# Altium footprint library ADuC.PcbLib: 1 footprints
Each footprint in its own frame and in the unit in brackets; x right, y up, seen from the top. Pads: shape width x height; smd on the part's side, far side on the other; paste and mask are expansions set on the pad; w line width, h text height; cw(c..) or ccw(c..) is an arc to the next point about the centre after c.
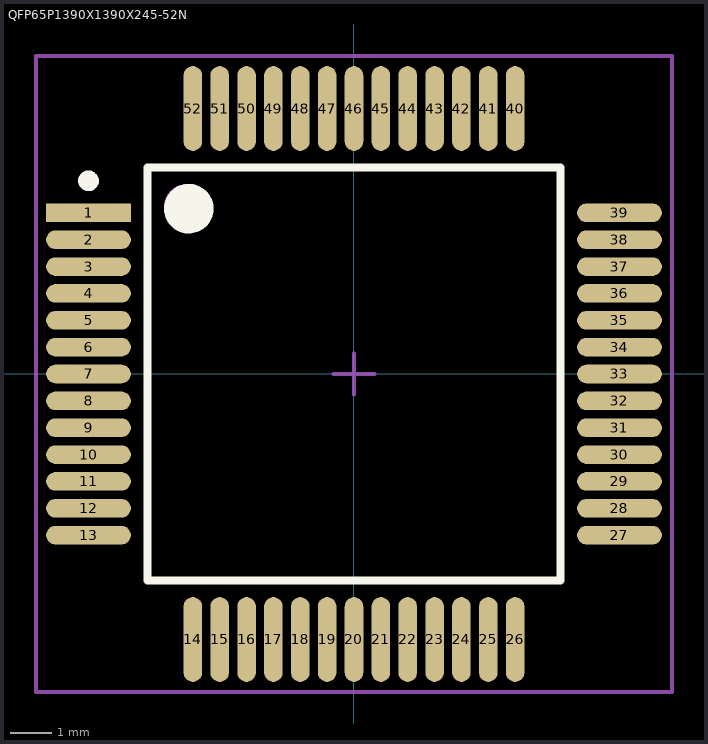
[diagram p0: the footprint, top view; thin cyan lines are the x and y axes]

## QFP65P1390X1390X245-52N [mm] "QFP, 52-Leads, Body 14.1x14.1mm (max), Pitch 0.65mm, IPC Medium Density"
height 2.45
pads (52):
  rect 2.05x0.45 smd: 1(-6.425,3.9)
  oval 2.05x0.45 smd: 2(-6.425,3.25) 3(-6.425,2.6) 4(-6.425,1.95) 5(-6.425,1.3) 6(-6.425,0.65) 7(-6.425,0) 8(-6.425,-0.65) 9(-6.425,-1.3) 10(-6.425,-1.95) 11(-6.425,-2.6) 12(-6.425,-3.25) 13(-6.425,-3.9) 27(6.425,-3.9) 28(6.425,-3.25) 29(6.425,-2.6) 30(6.425,-1.95) 31(6.425,-1.3) 32(6.425,-0.65) 33(6.425,0) 34(6.425,0.65) 35(6.425,1.3) 36(6.425,1.95) 37(6.425,2.6) 38(6.425,3.25) 39(6.425,3.9)
  oval 0.45x2.05 smd: 14(-3.9,-6.425) 15(-3.25,-6.425) 16(-2.6,-6.425) 17(-1.95,-6.425) 18(-1.3,-6.425) 19(-0.65,-6.425) 20(0,-6.425) 21(0.65,-6.425) 22(1.3,-6.425) 23(1.95,-6.425) 24(2.6,-6.425) 25(3.25,-6.425) 26(3.9,-6.425) 40(3.9,6.425) 41(3.25,6.425) 42(2.6,6.425) 43(1.95,6.425) 44(1.3,6.425) 45(0.65,6.425) 46(0,6.425) 47(-0.65,6.425) 48(-1.3,6.425) 49(-1.95,6.425) 50(-2.6,6.425) 51(-3.25,6.425) 52(-3.9,6.425)
Top Overlay:
  circle w0.6: c-4,4 r0.3
  circle w0.25: c-6.425,4.675 r0.125
  lines w0.2: -5,-5 5,-5 5,5 -5,5 -5,-5
Mechanical 13:
  circle w0.1: c-4.05,4.05 r0.5
  lines w0.1: -5,-5 5,-5 5,5 -5,5 -5,-5
Mechanical 15:
  lines w0.1: -0.5,0 0.5,0 ; 0,-0.5 0,0.5 ; -7.7,-7.7 7.7,-7.7 7.7,7.7 -7.7,7.7 -7.7,-7.7
3D body: height 2.45, standoff 0.25, extent -5,-5 5,5